# EAGLE library part TSL2561 (library microbuilder)
TSL2561 Light-To-Digital Sensor Mouser: 856-TSL2561CS
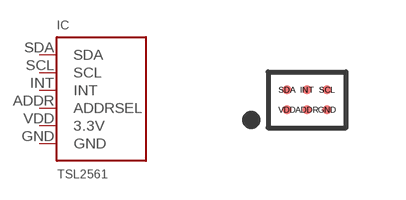
[diagram p23: symbol with the pads of TCL2561_CS6; footprint TCL2561_CS6]

Designator prefix IC

## TSL2561  [TCL2561_CS6]
ADDR  ADDRSEL
GND  GND
INT  INT
SCL  SCL
SDA  SDA
VDD  3.3V

## Footprint TCL2561_CS6 (pad centres in mm)
6 Lead Chipscale 0.21mm pads, 0.5mm pitch
smd 0.21 x 0.21: ADDR 0,-0.25; GND 0.5,-0.25; INT 0,0.25; SCL 0.5,0.25; SDA -0.5,0.25; VDD -0.5,-0.25